# EAGLE library part INA126 (library HR-MON)
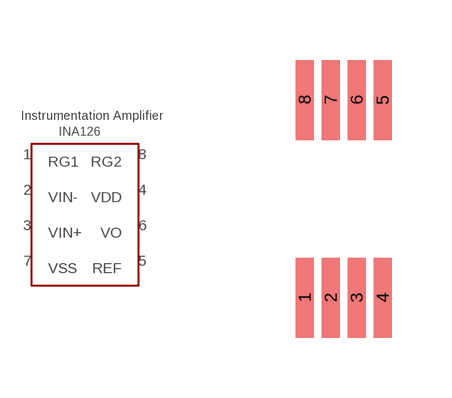
[diagram p0: symbol with the pads of SOIC-8; footprint SOIC-8]

Designator prefix -

## INA126  [SOIC-8]
1  RG1
2  VIN-
3  VIN+
4  VDD
5  REF
6  VO
7  VSS
8  RG2

## Footprint SOIC-8 (pad centres in mm)
smd 0.45 x 2: 1 0,0; 2 0.65,0; 3 1.3,0; 4 1.95,0; 5 1.95,4.95; 6 1.3,4.95; 7 0.65,4.95; 8 0,4.95